# EAGLE library part XFMR_750343109 (library wheat)
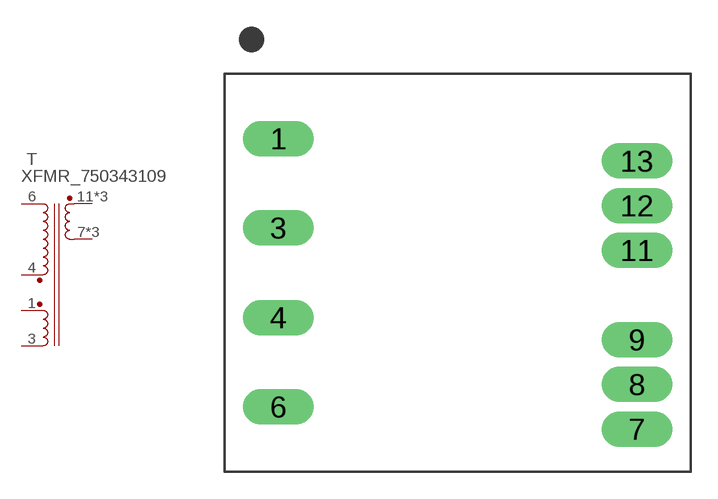
[diagram p285: symbol with the pads of XFMR_750343109; footprint XFMR_750343109]

Designator prefix T

## XFMR_750343109  [XFMR_750343109]
1  AUXP  pas
3  AUXN  pas
4  PRIP  pas
6  PRIN  pas
7  SECN  pas
8  SECN  pas
9  SECN  pas
11  SECP  pas
12  SECP  pas
13  SECP  pas

## Footprint XFMR_750343109 (pad centres in mm)
drill 1.32 pad 1.676 long: 1 -10,7.48; 3 -10,2.5; 4 -10,-2.5; 6 -10,-7.48; 7 10,-8.72; 8 10,-6.23; 9 10,-3.74; 11 10,1.25; 12 10,3.74; 13 10,6.23